# EAGLE library part EB-85A (library GPS Receivers)
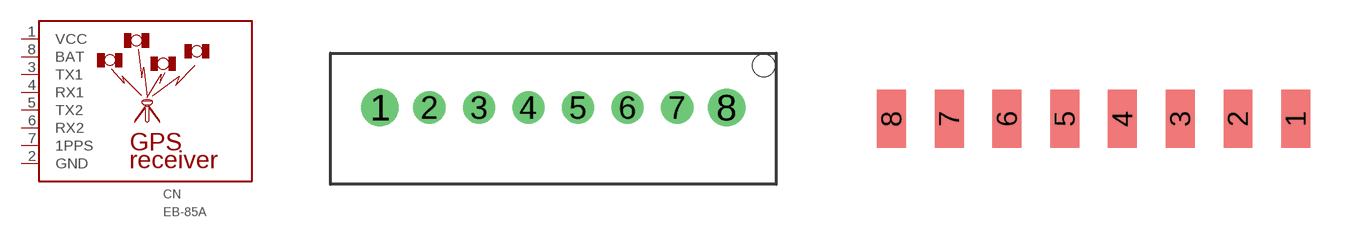
[diagram p3: symbol with the pads of B08B-PASK(2MM_PITCH); footprints B08B-PASK(2MM_PITCH), 8POLE_P2.0]

Designator prefix CN

## EB-85A-PASK  [B08B-PASK(2MM_PITCH)]
1  VCC
2  GND
3  TX1
4  RX1
5  TX2
6  RX2
7  1PPS
8  BAT

## EB-85A-PAD_P2.0  [8POLE_P2.0]
Pads as for B08B-PASK(2MM_PITCH)

## Footprint B08B-PASK(2MM_PITCH) (pad centres in mm)
B08B-PASK _PA series 2.0mm pitch connector Producted by JST.
drill 1: 1 -7,0; 8 7,0
drill 0.8: 2 -5,0; 3 -3,0; 4 -1,0; 5 1,0; 6 3,0; 7 5,0
hole 0.9 at 8.5,1.7

## Footprint 8POLE_P2.0 (pad centres in mm)
smd 1 x 2: 1 7,0; 2 5,0; 3 3,0; 4 1,0; 5 -1,0; 6 -3,0; 7 -5,0; 8 -7,0